# Altium footprint library PcbLibICPOWER.PcbLib: 19 footprints (part 2 of 2)
Each footprint in its own frame and in the unit in brackets; x right, y up, seen from the top. Pads: shape width x height; smd on the part's side, far side on the other; paste and mask are expansions set on the pad; w line width, h text height; cw(c..) or ccw(c..) is an arc to the next point about the centre after c.
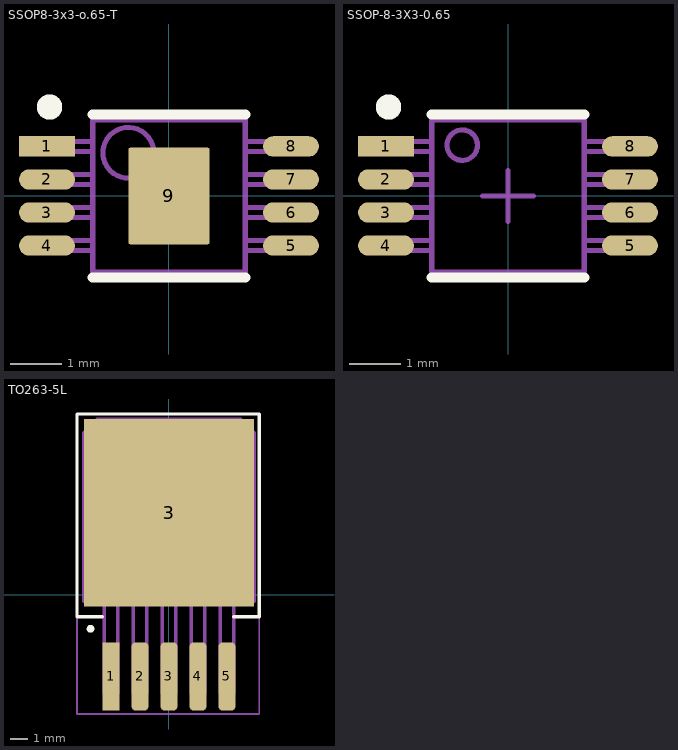
[diagram p1: the footprints below, top view; thin cyan lines are the x and y axes]

## SSOP8-3x3-o.65-T [mm]
pads (9):
  rect 1.1x0.4 smd: 1(-2.4,0.975)
  oval 1.1x0.4 smd: 2(-2.4,0.325) 3(-2.4,-0.325) 4(-2.4,-0.975) 5(2.4,-0.975) 6(2.4,-0.325) 7(2.4,0.325) 8(2.4,0.975)
  rrect5% 1.6x1.9 smd: 9(0,0)
Top Overlay:
  circle w0.25: c-2.35,1.75 r0.125
  lines w0.2: -1.5,-1.6 1.5,-1.6 ; -1.5,1.6 1.5,1.6
TopAssy:
  circle w0.1: c-0.8,0.85 r0.5
  lines w0.1: -2.45,-1.075 -1.5,-1.075 ; -2.45,-0.875 -1.5,-0.875 ; -2.45,-0.425 -1.5,-0.425 ; -2.45,-0.225 -1.5,-0.225 ; -2.45,0.225 -1.5,0.225 ; -2.45,0.425 -1.5,0.425 ; -2.45,0.875 -1.5,0.875 ; -2.45,1.075 -1.5,1.075 ; 1.5,-1.075 2.45,-1.075 ; 1.5,-0.875 2.45,-0.875 ; 1.5,-0.425 2.45,-0.425 ; 1.5,-0.225 2.45,-0.225 ; 1.5,0.225 2.45,0.225 ; 1.5,0.425 2.45,0.425 ; 1.5,0.875 2.45,0.875 ; 1.5,1.075 2.45,1.075 ; -1.5,-1.5 -1.5,1.5 1.5,1.5 1.5,-1.5 -1.5,-1.5
Inside:
  lines w0.1: -0.325,0 0.325,0 ; 0,-0.325 0,0.325
3D body "User Library-MSOP-8-2.STEP": height 1, standoff -0.07, extent -2.51,-1.5 2.511,1.5

## SSOP-8-3X3-0.65 [mm] "MSOP, 8-Leads, Body 3,00x3,00mm, Pitch 0,65mm, IPC Medium Density"
height 1.2
pads (8):
  rect 1.1x0.4 smd: 1(-2.4,0.975)
  oval 1.1x0.4 smd: 2(-2.4,0.325) 3(-2.4,-0.325) 4(-2.4,-0.975) 5(2.4,-0.975) 6(2.4,-0.325) 7(2.4,0.325) 8(2.4,0.975)
Top Overlay:
  circle w0.25: c-2.35,1.75 r0.125
  lines w0.2: -1.5,-1.6 1.5,-1.6 ; -1.5,1.6 1.5,1.6
TopAssy:
  circle w0.1: c-0.9,1 r0.3
  lines w0.1: -1.5,-1.075 -2.45,-1.075 -2.45,-0.875 -1.5,-0.875 ; -1.5,-0.425 -2.45,-0.425 -2.45,-0.225 -1.5,-0.225 ; -1.5,0.225 -2.45,0.225 -2.45,0.425 -1.5,0.425 ; -1.5,0.875 -2.45,0.875 -2.45,1.075 -1.5,1.075 ; 1.5,-1.075 2.45,-1.075 2.45,-0.875 1.5,-0.875 ; 1.5,-0.425 2.45,-0.425 2.45,-0.225 1.5,-0.225 ; 1.5,0.225 2.45,0.225 2.45,0.425 1.5,0.425 ; 1.5,0.875 2.45,0.875 2.45,1.075 1.5,1.075 ; -1.5,-1.5 1.5,-1.5 1.5,1.5 -1.5,1.5 -1.5,-1.5
Inside:
  lines w0.1: -0.5,0 0.5,0 ; 0,-0.5 0,0.5
3D body "User Library-MSOP-8-2.STEP": height 1.05, standoff -0.02, extent -2.51,-1.5 2.511,1.5

## TO263-5L [mm]
pads (6):
  rect 1x4 smd: 1(-3.4,-4.8)
  rrect50% 1x4 smd: 2(-1.7,-4.8) 3(0,-4.8) 4(1.7,-4.8) 5(3.4,-4.8)
  rect 10x11 smd: 3(0,4.8)
Top Overlay:
  circle w0.254: c-4.6,-2 r0.1
  lines w0.2: -3.9,-1.3 -5.4,-1.3 -5.4,10.6 5.3,10.6 5.3,-1.3 3.8,-1.3
TopAssy:
  lines w0.2: -3.8,-0.4 -3.8,-5.8 -3,-5.8 -3,-0.4 ; -2.1,-0.4 -2.1,-5.8 -1.3,-5.8 -1.3,-0.4 ; -0.4,-0.4 -0.4,-5.8 0.4,-5.8 0.4,-0.4 ; 1.3,-0.4 1.3,-5.8 2.1,-5.8 2.1,-0.4 ; 3,-0.4 3,-5.8 3.8,-5.8 3.8,-0.4 ; -5,9 -5,9.5 -4.2,10.3 4.2,10.3 5,9.5 5,9 ; -5,9 -5,-0.4 -4.9,-0.4 5,-0.4 5,9 ; -5,9 5,9
Inside:
  lines w0.1: -0.2,0 0.2,0 ; 0,-0.2 0,0.2 ; -5.4,-7 -5.4,10.6 5.3,10.6 5.3,-7 -5.4,-7
3D body "User Library-TO-263 5Ld.step": height 4.57, standoff -0.01, extent -5.08,-5.471 5.08,9.17